# Altium footprint library Packaging.PcbLib: 26 footprints (part 1 of 2)
Each footprint in its own frame and in the unit in brackets; x right, y up, seen from the top. Pads: shape width x height; smd on the part's side, far side on the other; paste and mask are expansions set on the pad; w line width, h text height; cw(c..) or ccw(c..) is an arc to the next point about the centre after c.
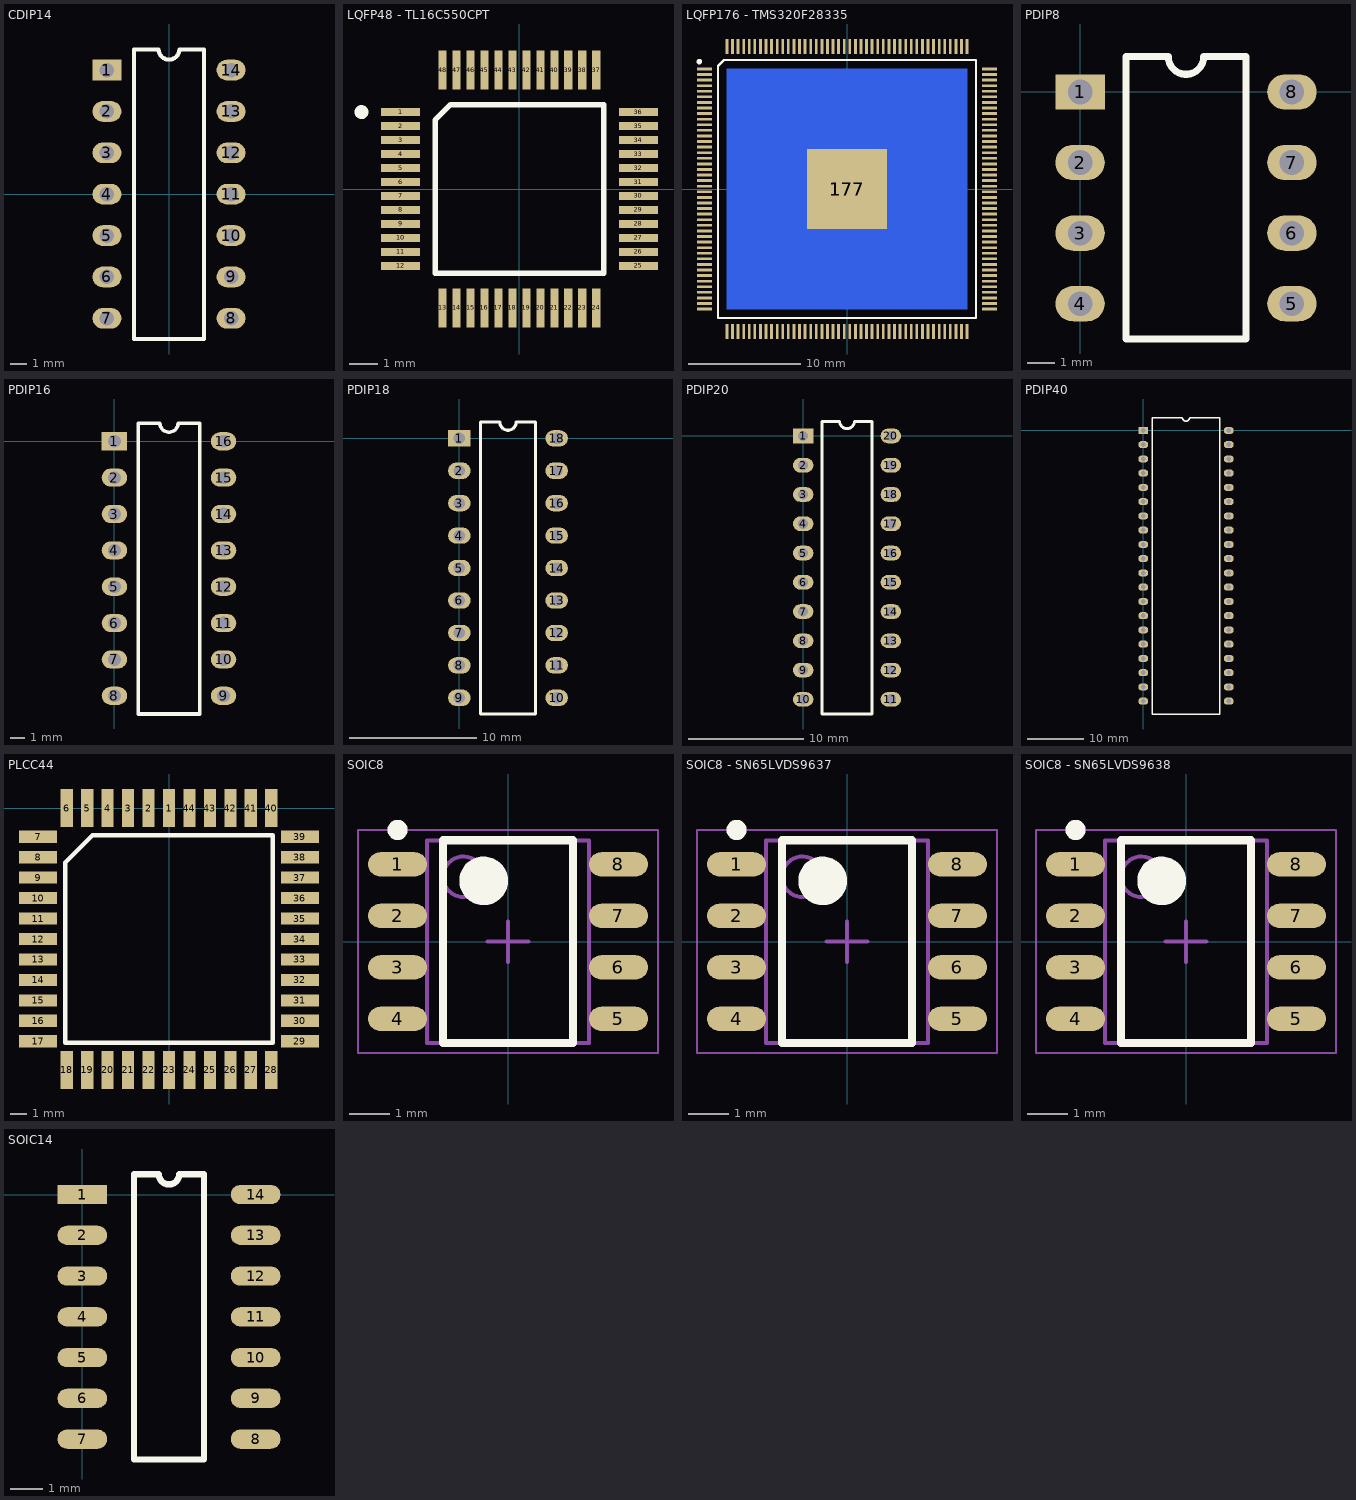
[diagram p0: the footprints below, top view; thin cyan lines are the x and y axes]

## CDIP14 [mil]
pads (14):
  rect 70x50 hole 35: 1(-150,300)
  oval 70x50 hole 35: 2(-150,200) 3(-150,100) 4(-150,0) 5(-150,-100) 6(-150,-200) 7(-150,-300) 8(150,-300) 9(150,-200) 10(150,-100) 11(150,0) 12(150,100) 13(150,200) 14(150,300)
Top Overlay:
  lines w10: -85,-350 -85,350 -25,350 ccw(c0,350) 25,350 85,350 85,-350 -85,-350
3D body: height 55, standoff 45, extent -125,-350.02 125,350.03
3D body: height 100, standoff 55, extent -125,-350.02 125,350.03
3D body: height 0, standoff -125, extent 145,292.5 155,307.5
3D body: height 50, standoff 0, extent 145,275 155,325
3D body: height 50, standoff 40, extent 125,275 145,325
3D body: height 0, standoff -125, extent 145,192.5 155,207.5
3D body: height 50, standoff 0, extent 145,175 155,225
3D body: height 50, standoff 40, extent 125,175 145,225
3D body: height 0, standoff -125, extent 145,92.5 155,107.5
3D body: height 50, standoff 0, extent 145,75 155,125
3D body: height 50, standoff 40, extent 125,75 145,125
3D body: height 0, standoff -125, extent 145,-7.5 155,7.5
3D body: height 50, standoff 0, extent 145,-25 155,25
3D body: height 50, standoff 40, extent 125,-25 145,25
3D body: height 0, standoff -125, extent 145,-107.5 155,-92.5
3D body: height 50, standoff 0, extent 145,-125 155,-75
3D body: height 50, standoff 40, extent 125,-125 145,-75
3D body: height 0, standoff -125, extent 145,-207.5 155,-192.5
3D body: height 50, standoff 0, extent 145,-225 155,-175
3D body: height 50, standoff 40, extent 125,-225 145,-175
3D body: height 0, standoff -125, extent 145,-307.5 155,-292.5
3D body: height 50, standoff 0, extent 145,-325 155,-275
3D body: height 50, standoff 40, extent 125,-325 145,-275
3D body: height 0, standoff -125, extent -155,-307.5 -145,-292.5
3D body: height 50, standoff 0, extent -155,-325 -145,-275
3D body: height 50, standoff 40, extent -145,-325 -125,-275
3D body: height 0, standoff -125, extent -155,-207.5 -145,-192.5
3D body: height 50, standoff 0, extent -155,-225 -145,-175
3D body: height 50, standoff 40, extent -145,-225 -125,-175
3D body: height 0, standoff -125, extent -155,-107.5 -145,-92.5
3D body: height 50, standoff 0, extent -155,-125 -145,-75
3D body: height 50, standoff 40, extent -145,-125 -125,-75
3D body: height 0, standoff -125, extent -155,-7.5 -145,7.5
3D body: height 50, standoff 0, extent -155,-25 -145,25
3D body: height 50, standoff 40, extent -145,-25 -125,25
3D body: height 0, standoff -125, extent -155,92.5 -145,107.5
3D body: height 50, standoff 0, extent -155,75 -145,125
3D body: height 50, standoff 40, extent -145,75 -125,125
3D body: height 0, standoff -125, extent -155,192.5 -145,207.5
3D body: height 50, standoff 0, extent -155,175 -145,225
3D body: height 50, standoff 40, extent -145,175 -125,225
3D body: height 0, standoff -125, extent -155,292.5 -145,307.5
3D body: height 50, standoff 0, extent -155,275 -145,325
3D body: height 50, standoff 40, extent -145,275 -125,325
3D body: height 45, standoff 15, extent -125,-350.02 125,350.03

## LQFP48 - TL16C550CPT [mm]
pads (48):
  rect 1.4x0.3 smd: 1(-4.25,2.75) 2(-4.25,2.25) 3(-4.25,1.75) 4(-4.25,1.25) 5(-4.25,0.75) 6(-4.25,0.25) 7(-4.25,-0.25) 8(-4.25,-0.75) 9(-4.25,-1.25) 10(-4.25,-1.75) 11(-4.25,-2.25) 12(-4.25,-2.75) 25(4.25,-2.75) 26(4.25,-2.25) 27(4.25,-1.75) 28(4.25,-1.25) 29(4.25,-0.75) 30(4.25,-0.25) 31(4.25,0.25) 32(4.25,0.75) 33(4.25,1.25) 34(4.25,1.75) 35(4.25,2.25) 36(4.25,2.75)
  rect 0.3x1.4 smd: 13(-2.75,-4.25) 14(-2.25,-4.25) 15(-1.75,-4.25) 16(-1.25,-4.25) 17(-0.75,-4.25) 18(-0.25,-4.25) 19(0.25,-4.25) 20(0.75,-4.25) 21(1.25,-4.25) 22(1.75,-4.25) 23(2.25,-4.25) 24(2.75,-4.25) 37(2.75,4.25) 38(2.25,4.25) 39(1.75,4.25) 40(1.25,4.25) 41(0.75,4.25) 42(0.25,4.25) 43(-0.25,4.25) 44(-0.75,4.25) 45(-1.25,4.25) 46(-1.75,4.25) 47(-2.25,4.25) 48(-2.75,4.25)
Top Overlay:
  circle w0.25: c-5.645,2.75 r0.125
  lines w0.2: -3.015,-3.015 -3.015,2.461 -2.461,3.015 3.015,3.015 3.015,-3.015 -3.015,-3.015
3D body: height 0.7, standoff 0, extent -2.875,3.5 -2.625,4.5
3D body: height 0.7, standoff 0, extent -2.375,3.5 -2.125,4.5
3D body: height 0.7, standoff 0, extent -1.875,3.5 -1.625,4.5
3D body: height 0.7, standoff 0, extent -1.375,3.5 -1.125,4.5
3D body: height 0.7, standoff 0, extent -0.875,3.5 -0.625,4.5
3D body: height 0.7, standoff 0, extent -0.375,3.5 -0.125,4.5
3D body: height 0.7, standoff 0, extent 0.125,3.5 0.375,4.5
3D body: height 0.7, standoff 0, extent 0.625,3.5 0.875,4.5
3D body: height 0.7, standoff 0, extent 1.125,3.5 1.375,4.5
3D body: height 0.7, standoff 0, extent 1.625,3.5 1.875,4.5
3D body: height 0.7, standoff 0, extent 2.125,3.5 2.375,4.5
3D body: height 0.7, standoff 0, extent 2.625,3.5 2.875,4.5
3D body: height 0.7, standoff 0, extent 3.5,2.625 4.5,2.875
3D body: height 0.7, standoff 0, extent 3.5,2.125 4.5,2.375
3D body: height 0.7, standoff 0, extent 3.5,1.625 4.5,1.875
3D body: height 0.7, standoff 0, extent 3.5,1.125 4.5,1.375
3D body: height 0.7, standoff 0, extent 3.5,0.625 4.5,0.875
3D body: height 0.7, standoff 0, extent 3.5,0.125 4.5,0.375
3D body: height 0.7, standoff 0, extent 3.5,-0.375 4.5,-0.125
3D body: height 0.7, standoff 0, extent 3.5,-0.875 4.5,-0.625
3D body: height 0.7, standoff 0, extent 3.5,-1.375 4.5,-1.125
3D body: height 0.7, standoff 0, extent 3.5,-1.875 4.5,-1.625
3D body: height 0.7, standoff 0, extent 3.5,-2.375 4.5,-2.125
3D body: height 0.7, standoff 0, extent 3.5,-2.875 4.5,-2.625
3D body: height 0.7, standoff 0, extent 2.625,-4.5 2.875,-3.5
3D body: height 0.7, standoff 0, extent 2.125,-4.5 2.375,-3.5
3D body: height 0.7, standoff 0, extent 1.625,-4.5 1.875,-3.5
3D body: height 0.7, standoff 0, extent 1.125,-4.5 1.375,-3.5
3D body: height 0.7, standoff 0, extent 0.625,-4.5 0.875,-3.5
3D body: height 0.7, standoff 0, extent 0.125,-4.5 0.375,-3.5
3D body: height 0.7, standoff 0, extent -0.375,-4.5 -0.125,-3.5
3D body: height 0.7, standoff 0, extent -0.875,-4.5 -0.625,-3.5
3D body: height 0.7, standoff 0, extent -1.375,-4.5 -1.125,-3.5
3D body: height 0.7, standoff 0, extent -1.875,-4.5 -1.625,-3.5
3D body: height 0.7, standoff 0, extent -2.375,-4.5 -2.125,-3.5
3D body: height 0.7, standoff 0, extent -2.875,-4.5 -2.625,-3.5
3D body: height 0.7, standoff 0, extent -4.5,-2.875 -3.5,-2.625
3D body: height 0.7, standoff 0, extent -4.5,-2.375 -3.5,-2.125
3D body: height 0.7, standoff 0, extent -4.5,-1.875 -3.5,-1.625
3D body: height 0.7, standoff 0, extent -4.5,-1.375 -3.5,-1.125
3D body: height 0.7, standoff 0, extent -4.5,-0.875 -3.5,-0.625
3D body: height 0.7, standoff 0, extent -4.5,-0.375 -3.5,-0.125
3D body: height 0.7, standoff 0, extent -4.5,0.125 -3.5,0.375
3D body: height 0.7, standoff 0, extent -4.5,0.625 -3.5,0.875
3D body: height 0.7, standoff 0, extent -4.5,1.125 -3.5,1.375
3D body: height 0.7, standoff 0, extent -4.5,1.625 -3.5,1.875
3D body: height 0.7, standoff 0, extent -4.5,2.125 -3.5,2.375
3D body: height 0.7, standoff 0, extent -4.5,2.625 -3.5,2.875
3D body: height 1.4, standoff 0, extent -3.5,-3.5 3.5,3.5

## LQFP176 - TMS320F28335 [mm] "LQFP176 with PowerPAD."
pads (178):
  rect 1.35x0.25 smd: 1(-12.75,10.75) 2(-12.75,10.25) 3(-12.75,9.75) 4(-12.75,9.25) 5(-12.75,8.75) 6(-12.75,8.25) 7(-12.75,7.75) 8(-12.75,7.25) 9(-12.75,6.75) 10(-12.75,6.25) 11(-12.75,5.75) 12(-12.75,5.25) 13(-12.75,4.75) 14(-12.75,4.25) 15(-12.75,3.75) 16(-12.75,3.25) 17(-12.75,2.75) 18(-12.75,2.25) 19(-12.75,1.75) 20(-12.75,1.25) 21(-12.75,0.75) 22(-12.75,0.25) 23(-12.75,-0.25) 24(-12.75,-0.75) 25(-12.75,-1.25) 26(-12.75,-1.75) 27(-12.75,-2.25) 28(-12.75,-2.75) 29(-12.75,-3.25) 30(-12.75,-3.75) 31(-12.75,-4.25) 32(-12.75,-4.75) 33(-12.75,-5.25) 34(-12.75,-5.75) 35(-12.75,-6.25) 36(-12.75,-6.75) 37(-12.75,-7.25) 38(-12.75,-7.75) 39(-12.75,-8.25) 40(-12.75,-8.75) 41(-12.75,-9.25) 42(-12.75,-9.75) 43(-12.75,-10.25) 44(-12.75,-10.75) 89(12.75,-10.75) 90(12.75,-10.25) 91(12.75,-9.75) 92(12.75,-9.25) 93(12.75,-8.75) 94(12.75,-8.25) 95(12.75,-7.75) 96(12.75,-7.25) 97(12.75,-6.75) 98(12.75,-6.25) 99(12.75,-5.75) 100(12.75,-5.25) 101(12.75,-4.75) 102(12.75,-4.25) 103(12.75,-3.75) 104(12.75,-3.25) 105(12.75,-2.75) 106(12.75,-2.25) 107(12.75,-1.75) 108(12.75,-1.25) 109(12.75,-0.75) 110(12.75,-0.25) 111(12.75,0.25) 112(12.75,0.75) 113(12.75,1.25) 114(12.75,1.75) 115(12.75,2.25) 116(12.75,2.75) 117(12.75,3.25) 118(12.75,3.75) 119(12.75,4.25) 120(12.75,4.75) 121(12.75,5.25) 122(12.75,5.75) 123(12.75,6.25) 124(12.75,6.75) 125(12.75,7.25) 126(12.75,7.75) 127(12.75,8.25) 128(12.75,8.75) 129(12.75,9.25) 130(12.75,9.75) 131(12.75,10.25) 132(12.75,10.75)
  rect 0.25x1.35 smd: 45(-10.75,-12.75) 46(-10.25,-12.75) 47(-9.75,-12.75) 48(-9.25,-12.75) 49(-8.75,-12.75) 50(-8.25,-12.75) 51(-7.75,-12.75) 52(-7.25,-12.75) 53(-6.75,-12.75) 54(-6.25,-12.75) 55(-5.75,-12.75) 56(-5.25,-12.75) 57(-4.75,-12.75) 58(-4.25,-12.75) 59(-3.75,-12.75) 60(-3.25,-12.75) 61(-2.75,-12.75) 62(-2.25,-12.75) 63(-1.75,-12.75) 64(-1.25,-12.75) 65(-0.75,-12.75) 66(-0.25,-12.75) 67(0.25,-12.75) 68(0.75,-12.75) 69(1.25,-12.75) 70(1.75,-12.75) 71(2.25,-12.75) 72(2.75,-12.75) 73(3.25,-12.75) 74(3.75,-12.75) 75(4.25,-12.75) 76(4.75,-12.75) 77(5.25,-12.75) 78(5.75,-12.75) 79(6.25,-12.75) 80(6.75,-12.75) 81(7.25,-12.75) 82(7.75,-12.75) 83(8.25,-12.75) 84(8.75,-12.75) 85(9.25,-12.75) 86(9.75,-12.75) 87(10.25,-12.75) 88(10.75,-12.75) 133(10.75,12.75) 134(10.25,12.75) 135(9.75,12.75) 136(9.25,12.75) 137(8.75,12.75) 138(8.25,12.75) 139(7.75,12.75) 140(7.25,12.75) 141(6.75,12.75) 142(6.25,12.75) 143(5.75,12.75) 144(5.25,12.75) 145(4.75,12.75) 146(4.25,12.75) 147(3.75,12.75) 148(3.25,12.75) 149(2.75,12.75) 150(2.25,12.75) 151(1.75,12.75) 152(1.25,12.75) 153(0.75,12.75) 154(0.25,12.75) 155(-0.25,12.75) 156(-0.75,12.75) 157(-1.25,12.75) 158(-1.75,12.75) 159(-2.25,12.75) 160(-2.75,12.75) 161(-3.25,12.75) 162(-3.75,12.75) 163(-4.25,12.75) 164(-4.75,12.75) 165(-5.25,12.75) 166(-5.75,12.75) 167(-6.25,12.75) 168(-6.75,12.75) 169(-7.25,12.75) 170(-7.75,12.75) 171(-8.25,12.75) 172(-8.75,12.75) 173(-9.25,12.75) 174(-9.75,12.75) 175(-10.25,12.75) 176(-10.75,12.75)
  rect 7.18x7.16 smd: 177(0,0)
  rect 21.5x21.5 smd far side: 177(0,0)
Top Overlay:
  circle w0.25: c-13.212,11.4 r0.125
  lines w0.2: -11.54,-11.54 -11.54,11 -11,11.54 11.54,11.54 11.54,-11.54 -11.54,-11.54
3D body: height 0.25, standoff 0, extent -9.9,-13 -9.6,-11.5
3D body: height 0.25, standoff 0, extent -10.4,-13 -10.1,-11.5
3D body: height 0.25, standoff 0, extent -10.9,-13 -10.6,-11.5
3D body: height 0.25, standoff 0, extent -13,-10.9 -11.5,-10.6
3D body: height 0.25, standoff 0, extent -13,-10.4 -11.5,-10.1
3D body: height 0.25, standoff 0, extent -13,-9.9 -11.5,-9.6
3D body: height 0.25, standoff 0, extent -13,-9.4 -11.5,-9.1
3D body: height 0.25, standoff 0, extent -13,-8.9 -11.5,-8.6
3D body: height 0.25, standoff 0, extent -13,-8.4 -11.5,-8.1
3D body: height 0.25, standoff 0, extent -13,-7.9 -11.5,-7.6
3D body: height 0.25, standoff 0, extent -13,-7.4 -11.5,-7.1
3D body: height 0.25, standoff 0, extent -13,-6.9 -11.5,-6.6
3D body: height 0.25, standoff 0, extent -13,-6.4 -11.5,-6.1
3D body: height 0.25, standoff 0, extent -13,-5.9 -11.5,-5.6
3D body: height 0.25, standoff 0, extent -13,-5.4 -11.5,-5.1
3D body: height 0.25, standoff 0, extent -13,-4.9 -11.5,-4.6
3D body: height 0.25, standoff 0, extent -13,-4.4 -11.5,-4.1
3D body: height 0.25, standoff 0, extent -13,-3.9 -11.5,-3.6
3D body: height 0.25, standoff 0, extent -13,-3.4 -11.5,-3.1
3D body: height 0.25, standoff 0, extent -13,-2.9 -11.5,-2.6
3D body: height 0.25, standoff 0, extent -13,-2.4 -11.5,-2.1
3D body: height 0.25, standoff 0, extent -13,-1.9 -11.5,-1.6
3D body: height 0.25, standoff 0, extent -13,-1.4 -11.5,-1.1
3D body: height 0.25, standoff 0, extent -13,-0.9 -11.5,-0.6
3D body: height 0.25, standoff 0, extent -13,-0.4 -11.5,-0.1
3D body: height 0.25, standoff 0, extent -13,0.1 -11.5,0.4
3D body: height 0.25, standoff 0, extent -13,0.6 -11.5,0.9
3D body: height 0.25, standoff 0, extent -13,1.1 -11.5,1.4
3D body: height 0.25, standoff 0, extent -13,1.6 -11.5,1.9
3D body: height 0.25, standoff 0, extent -13,2.1 -11.5,2.4
3D body: height 0.25, standoff 0, extent -13,2.6 -11.5,2.9
3D body: height 0.25, standoff 0, extent -13,3.1 -11.5,3.4
3D body: height 0.25, standoff 0, extent -13,3.6 -11.5,3.9
3D body: height 0.25, standoff 0, extent -13,4.1 -11.5,4.4
3D body: height 0.25, standoff 0, extent -13,4.6 -11.5,4.9
3D body: height 0.25, standoff 0, extent -13,5.1 -11.5,5.4
3D body: height 0.25, standoff 0, extent -13,5.6 -11.5,5.9
3D body: height 0.25, standoff 0, extent -13,6.1 -11.5,6.4
3D body: height 0.25, standoff 0, extent -13,6.6 -11.5,6.9
3D body: height 0.25, standoff 0, extent -13,7.1 -11.5,7.4
3D body: height 0.25, standoff 0, extent -13,7.6 -11.5,7.9
3D body: height 0.25, standoff 0, extent -13,8.1 -11.5,8.4
3D body: height 0.25, standoff 0, extent -13,8.6 -11.5,8.9
3D body: height 0.25, standoff 0, extent -13,9.1 -11.5,9.4
3D body: height 0.25, standoff 0, extent -13,9.6 -11.5,9.9
3D body: height 0.25, standoff 0, extent -13,10.6 -11.5,10.9
3D body: height 0.25, standoff 0, extent -13,10.1 -11.5,10.4
3D body: height 1.6, standoff 0, extent -11.541,-11.54 11.54,11.541
3D body: height 0.25, standoff 0, extent -9.4,-13 -9.1,-11.5
3D body: height 0.25, standoff 0, extent -8.9,-13 -8.6,-11.5
3D body: height 0.25, standoff 0, extent -8.4,-13 -8.1,-11.5
3D body: height 0.25, standoff 0, extent -7.9,-13 -7.6,-11.5
3D body: height 0.25, standoff 0, extent -7.4,-13 -7.1,-11.5
3D body: height 0.25, standoff 0, extent -6.9,-13 -6.6,-11.5
3D body: height 0.25, standoff 0, extent -6.4,-13 -6.1,-11.5
3D body: height 0.25, standoff 0, extent -5.9,-13 -5.6,-11.5
3D body: height 0.25, standoff 0, extent -5.4,-13 -5.1,-11.5
3D body: height 0.25, standoff 0, extent -4.9,-13 -4.6,-11.5
3D body: height 0.25, standoff 0, extent -4.4,-13 -4.1,-11.5
3D body: height 0.25, standoff 0, extent -3.9,-13 -3.6,-11.5
3D body: height 0.25, standoff 0, extent -3.4,-13 -3.1,-11.5
3D body: height 0.25, standoff 0, extent -2.9,-13 -2.6,-11.5
3D body: height 0.25, standoff 0, extent -2.4,-13 -2.1,-11.5
3D body: height 0.25, standoff 0, extent -1.9,-13 -1.6,-11.5
3D body: height 0.25, standoff 0, extent -1.4,-13 -1.1,-11.5
3D body: height 0.25, standoff 0, extent -0.9,-13 -0.6,-11.5
3D body: height 0.25, standoff 0, extent -0.4,-13 -0.1,-11.5
3D body: height 0.25, standoff 0, extent 0.1,-13 0.4,-11.5
3D body: height 0.25, standoff 0, extent 0.6,-13 0.9,-11.5
3D body: height 0.25, standoff 0, extent 1.1,-13 1.4,-11.5
3D body: height 0.25, standoff 0, extent 1.6,-13 1.9,-11.5
3D body: height 0.25, standoff 0, extent 2.1,-13 2.4,-11.5
3D body: height 0.25, standoff 0, extent 2.6,-13 2.9,-11.5
3D body: height 0.25, standoff 0, extent 3.1,-13 3.4,-11.5
3D body: height 0.25, standoff 0, extent 3.6,-13 3.9,-11.5
3D body: height 0.25, standoff 0, extent 4.1,-13 4.4,-11.5
3D body: height 0.25, standoff 0, extent 4.6,-13 4.9,-11.5
3D body: height 0.25, standoff 0, extent 5.1,-13 5.4,-11.5
3D body: height 0.25, standoff 0, extent 5.6,-13 5.9,-11.5
3D body: height 0.25, standoff 0, extent 6.1,-13 6.4,-11.5
3D body: height 0.25, standoff 0, extent 6.6,-13 6.9,-11.5
3D body: height 0.25, standoff 0, extent 7.1,-13 7.4,-11.5
3D body: height 0.25, standoff 0, extent 7.6,-13 7.9,-11.5
3D body: height 0.25, standoff 0, extent 8.1,-13 8.4,-11.5
3D body: height 0.25, standoff 0, extent 8.6,-13 8.9,-11.5
3D body: height 0.25, standoff 0, extent 9.1,-13 9.4,-11.5
3D body: height 0.25, standoff 0, extent 9.6,-13 9.9,-11.5
3D body: height 0.25, standoff 0, extent 10.1,-13 10.4,-11.5
3D body: height 0.25, standoff 0, extent 10.6,-13 10.9,-11.5
3D body: height 0.25, standoff 0, extent 11.5,-10.9 13,-10.6
3D body: height 0.25, standoff 0, extent 11.5,-10.4 13,-10.1
3D body: height 0.25, standoff 0, extent 11.5,-9.9 13,-9.6
3D body: height 0.25, standoff 0, extent 11.5,-9.4 13,-9.1
3D body: height 0.25, standoff 0, extent 11.5,-8.9 13,-8.6
3D body: height 0.25, standoff 0, extent 11.5,-8.4 13,-8.1
3D body: height 0.25, standoff 0, extent 11.5,-7.9 13,-7.6
3D body: height 0.25, standoff 0, extent 11.5,-7.4 13,-7.1
3D body: height 0.25, standoff 0, extent 11.5,-6.9 13,-6.6
3D body: height 0.25, standoff 0, extent 11.5,-6.4 13,-6.1
3D body: height 0.25, standoff 0, extent 11.5,-5.9 13,-5.6
3D body: height 0.25, standoff 0, extent 11.5,-5.4 13,-5.1
3D body: height 0.25, standoff 0, extent 11.5,-4.9 13,-4.6
3D body: height 0.25, standoff 0, extent 11.5,-4.4 13,-4.1
3D body: height 0.25, standoff 0, extent 11.5,-3.9 13,-3.6
3D body: height 0.25, standoff 0, extent 11.5,-3.4 13,-3.1
3D body: height 0.25, standoff 0, extent 11.5,-2.9 13,-2.6
3D body: height 0.25, standoff 0, extent 11.5,-2.4 13,-2.1
3D body: height 0.25, standoff 0, extent 11.5,-1.9 13,-1.6
3D body: height 0.25, standoff 0, extent 11.5,-1.4 13,-1.1
3D body: height 0.25, standoff 0, extent 11.5,-0.9 13,-0.6
3D body: height 0.25, standoff 0, extent 11.5,-0.4 13,-0.1
3D body: height 0.25, standoff 0, extent 11.5,0.1 13,0.4
3D body: height 0.25, standoff 0, extent 11.5,0.6 13,0.9
3D body: height 0.25, standoff 0, extent 11.5,1.1 13,1.4
3D body: height 0.25, standoff 0, extent 11.5,1.6 13,1.9
3D body: height 0.25, standoff 0, extent 11.5,2.1 13,2.4
3D body: height 0.25, standoff 0, extent 11.5,2.6 13,2.9
3D body: height 0.25, standoff 0, extent 11.5,3.1 13,3.4
3D body: height 0.25, standoff 0, extent 11.5,3.6 13,3.9
3D body: height 0.25, standoff 0, extent 11.5,4.1 13,4.4
3D body: height 0.25, standoff 0, extent 11.5,4.6 13,4.9
3D body: height 0.25, standoff 0, extent 11.5,5.1 13,5.4
3D body: height 0.25, standoff 0, extent 11.5,5.6 13,5.9
3D body: height 0.25, standoff 0, extent 11.5,6.1 13,6.4
3D body: height 0.25, standoff 0, extent 11.5,6.6 13,6.9
3D body: height 0.25, standoff 0, extent 11.5,7.1 13,7.4
3D body: height 0.25, standoff 0, extent 11.5,7.6 13,7.9
3D body: height 0.25, standoff 0, extent 11.5,8.1 13,8.4
3D body: height 0.25, standoff 0, extent 11.5,8.6 13,8.9
3D body: height 0.25, standoff 0, extent 11.5,9.1 13,9.4
3D body: height 0.25, standoff 0, extent 11.5,9.6 13,9.9
3D body: height 0.25, standoff 0, extent 11.5,10.1 13,10.4
3D body: height 0.25, standoff 0, extent 11.5,10.6 13,10.9
3D body: height 0.25, standoff 0, extent 10.6,11.5 10.9,13
3D body: height 0.25, standoff 0, extent 10.1,11.5 10.4,13
3D body: height 0.25, standoff 0, extent 9.6,11.5 9.9,13
3D body: height 0.25, standoff 0, extent 9.1,11.5 9.4,13
3D body: height 0.25, standoff 0, extent 8.6,11.5 8.9,13
3D body: height 0.25, standoff 0, extent 8.1,11.5 8.4,13
3D body: height 0.25, standoff 0, extent 7.6,11.5 7.9,13
3D body: height 0.25, standoff 0, extent 7.1,11.5 7.4,13
3D body: height 0.25, standoff 0, extent 6.6,11.5 6.9,13
3D body: height 0.25, standoff 0, extent 6.1,11.5 6.4,13
3D body: height 0.25, standoff 0, extent 5.6,11.5 5.9,13
3D body: height 0.25, standoff 0, extent 5.1,11.5 5.4,13
3D body: height 0.25, standoff 0, extent 4.6,11.5 4.9,13
3D body: height 0.25, standoff 0, extent 4.1,11.5 4.4,13
3D body: height 0.25, standoff 0, extent 3.6,11.5 3.9,13
3D body: height 0.25, standoff 0, extent 3.1,11.5 3.4,13
3D body: height 0.25, standoff 0, extent 2.6,11.5 2.9,13
3D body: height 0.25, standoff 0, extent 2.1,11.5 2.4,13
3D body: height 0.25, standoff 0, extent 1.6,11.5 1.9,13
3D body: height 0.25, standoff 0, extent 1.1,11.5 1.4,13
3D body: height 0.25, standoff 0, extent 0.6,11.5 0.9,13
3D body: height 0.25, standoff 0, extent 0.1,11.5 0.4,13
3D body: height 0.25, standoff 0, extent -0.4,11.5 -0.1,13
3D body: height 0.25, standoff 0, extent -0.9,11.5 -0.6,13
3D body: height 0.25, standoff 0, extent -1.4,11.5 -1.1,13
3D body: height 0.25, standoff 0, extent -1.9,11.5 -1.6,13
3D body: height 0.25, standoff 0, extent -2.4,11.5 -2.1,13
3D body: height 0.25, standoff 0, extent -2.9,11.5 -2.6,13
3D body: height 0.25, standoff 0, extent -3.4,11.5 -3.1,13
3D body: height 0.25, standoff 0, extent -3.9,11.5 -3.6,13
3D body: height 0.25, standoff 0, extent -4.4,11.5 -4.1,13
3D body: height 0.25, standoff 0, extent -4.9,11.5 -4.6,13
3D body: height 0.25, standoff 0, extent -5.4,11.5 -5.1,13
3D body: height 0.25, standoff 0, extent -5.9,11.5 -5.6,13
3D body: height 0.25, standoff 0, extent -6.4,11.5 -6.1,13
3D body: height 0.25, standoff 0, extent -6.9,11.5 -6.6,13
3D body: height 0.25, standoff 0, extent -7.4,11.5 -7.1,13
3D body: height 0.25, standoff 0, extent -7.9,11.5 -7.6,13
3D body: height 0.25, standoff 0, extent -8.4,11.5 -8.1,13
3D body: height 0.25, standoff 0, extent -8.9,11.5 -8.6,13
3D body: height 0.25, standoff 0, extent -9.4,11.5 -9.1,13
3D body: height 0.25, standoff 0, extent -9.9,11.5 -9.6,13
3D body: height 0.25, standoff 0, extent -10.4,11.5 -10.1,13
3D body: height 0.25, standoff 0, extent -10.9,11.5 -10.6,13

## PDIP8 [mil]
pads (8):
  rect 70x50 hole 35: 1(0,0)
  oval 70x50 hole 35: 2(0,-100) 3(0,-200) 4(0,-300) 5(300,-300) 6(300,-200) 7(300,-100) 8(300,0)
Top Overlay:
  lines w10: 65,-350 235,-350 235,50 175,50 cw(c150,50) 125,50 65,50 65,-350
3D body: height 100, standoff 15, extent 25,-350 275,50.03
3D body: height 50, standoff 40, extent 5,-25 25,25
3D body: height 50, standoff 0, extent -5,-25 5,25
3D body: height 0, standoff -125, extent -5,-7.5 5,7.5
3D body: height 50, standoff 40, extent 5,-125 25,-75
3D body: height 50, standoff 0, extent -5,-125 5,-75
3D body: height 0, standoff -125, extent -5,-107.5 5,-92.5
3D body: height 50, standoff 40, extent 5,-225 25,-175
3D body: height 50, standoff 0, extent -5,-225 5,-175
3D body: height 0, standoff -125, extent -5,-207.5 5,-192.5
3D body: height 50, standoff 40, extent 5,-325 25,-275
3D body: height 50, standoff 0, extent -5,-325 5,-275
3D body: height 0, standoff -125, extent -5,-307.5 5,-292.5
3D body: height 50, standoff 40, extent 275,-325 295,-275
3D body: height 50, standoff 0, extent 295,-325 305,-275
3D body: height 0, standoff -125, extent 295,-307.5 305,-292.5
3D body: height 50, standoff 40, extent 275,-225 295,-175
3D body: height 50, standoff 0, extent 295,-225 305,-175
3D body: height 0, standoff -125, extent 295,-207.5 305,-192.5
3D body: height 50, standoff 40, extent 275,-125 295,-75
3D body: height 50, standoff 0, extent 295,-125 305,-75
3D body: height 0, standoff -125, extent 295,-107.5 305,-92.5
3D body: height 50, standoff 40, extent 275,-25 295,25
3D body: height 50, standoff 0, extent 295,-25 305,25
3D body: height 0, standoff -125, extent 295,-7.5 305,7.5

## PDIP16 [mil]
pads (16):
  rect 70x50 hole 35: 1(0,0)
  oval 70x50 hole 35: 2(0,-100) 3(0,-200) 4(0,-300) 5(0,-400) 6(0,-500) 7(0,-600) 8(0,-700) 9(300,-700) 10(300,-600) 11(300,-500) 12(300,-400) 13(300,-300) 14(300,-200) 15(300,-100) 16(300,0)
Top Overlay:
  lines w10: 65,-750 235,-750 235,50 175,50 cw(c150,50) 125,50 65,50 65,-750
3D body: height 0, standoff -125, extent 295,-7.5 305,7.5
3D body: height 50, standoff 0, extent 295,-25 305,25
3D body: height 50, standoff 40, extent 275,-25 295,25
3D body: height 0, standoff -125, extent 295,-107.5 305,-92.5
3D body: height 50, standoff 0, extent 295,-125 305,-75
3D body: height 50, standoff 40, extent 275,-125 295,-75
3D body: height 0, standoff -125, extent 295,-207.5 305,-192.5
3D body: height 50, standoff 0, extent 295,-225 305,-175
3D body: height 50, standoff 40, extent 275,-225 295,-175
3D body: height 0, standoff -125, extent 295,-307.5 305,-292.5
3D body: height 50, standoff 0, extent 295,-325 305,-275
3D body: height 50, standoff 40, extent 275,-325 295,-275
3D body: height 0, standoff -125, extent 295,-407.5 305,-392.5
3D body: height 50, standoff 0, extent 295,-425 305,-375
3D body: height 50, standoff 40, extent 275,-425 295,-375
3D body: height 0, standoff -125, extent 295,-507.5 305,-492.5
3D body: height 50, standoff 0, extent 295,-525 305,-475
3D body: height 50, standoff 40, extent 275,-525 295,-475
3D body: height 0, standoff -125, extent 295,-607.5 305,-592.5
3D body: height 50, standoff 0, extent 295,-625 305,-575
3D body: height 50, standoff 40, extent 275,-625 295,-575
3D body: height 0, standoff -125, extent 295,-707.5 305,-692.5
3D body: height 50, standoff 0, extent 295,-725 305,-675
3D body: height 50, standoff 40, extent 275,-725 295,-675
3D body: height 0, standoff -125, extent -5,-707.5 5,-692.5
3D body: height 50, standoff 0, extent -5,-725 5,-675
3D body: height 50, standoff 40, extent 5,-725 25,-675
3D body: height 0, standoff -125, extent -5,-607.5 5,-592.5
3D body: height 50, standoff 0, extent -5,-625 5,-575
3D body: height 50, standoff 40, extent 5,-625 25,-575
3D body: height 0, standoff -125, extent -5,-507.5 5,-492.5
3D body: height 50, standoff 0, extent -5,-525 5,-475
3D body: height 50, standoff 40, extent 5,-525 25,-475
3D body: height 0, standoff -125, extent -5,-407.5 5,-392.5
3D body: height 50, standoff 0, extent -5,-425 5,-375
3D body: height 50, standoff 40, extent 5,-425 25,-375
3D body: height 0, standoff -125, extent -5,-307.5 5,-292.5
3D body: height 50, standoff 0, extent -5,-325 5,-275
3D body: height 50, standoff 40, extent 5,-325 25,-275
3D body: height 0, standoff -125, extent -5,-207.5 5,-192.5
3D body: height 50, standoff 0, extent -5,-225 5,-175
3D body: height 50, standoff 40, extent 5,-225 25,-175
3D body: height 0, standoff -125, extent -5,-107.5 5,-92.5
3D body: height 50, standoff 0, extent -5,-125 5,-75
3D body: height 50, standoff 40, extent 5,-125 25,-75
3D body: height 0, standoff -125, extent -5,-7.5 5,7.5
3D body: height 50, standoff 0, extent -5,-25 5,25
3D body: height 50, standoff 40, extent 5,-25 25,25
3D body: height 100, standoff 15, extent 25,-750 275,50.04

## PDIP18 [mil]
pads (18):
  rect 70x50 hole 35: 1(0,0)
  oval 70x50 hole 35: 2(0,-100) 3(0,-200) 4(0,-300) 5(0,-400) 6(0,-500) 7(0,-600) 8(0,-700) 9(0,-800) 10(300,-800) 11(300,-700) 12(300,-600) 13(300,-500) 14(300,-400) 15(300,-300) 16(300,-200) 17(300,-100) 18(300,0)
Top Overlay:
  lines w10: 65,-850 235,-850 235,50 175,50 cw(c150,50) 125,50 65,50 65,-850
3D body: height 50, standoff 40, extent 275,-825 295,-775
3D body: height 50, standoff 0, extent 295,-825 305,-775
3D body: height 0, standoff -125, extent 295,-807.5 305,-792.5
3D body: height 50, standoff 40, extent 5,-825 25,-775
3D body: height 50, standoff 0, extent -5,-825 5,-775
3D body: height 0, standoff -125, extent -5,-807.5 5,-792.5
3D body: height 0, standoff -125, extent 295,-7.5 305,7.5
3D body: height 50, standoff 0, extent 295,-25 305,25
3D body: height 50, standoff 40, extent 275,-25 295,25
3D body: height 0, standoff -125, extent 295,-107.5 305,-92.5
3D body: height 50, standoff 0, extent 295,-125 305,-75
3D body: height 50, standoff 40, extent 275,-125 295,-75
3D body: height 0, standoff -125, extent 295,-207.5 305,-192.5
3D body: height 50, standoff 0, extent 295,-225 305,-175
3D body: height 50, standoff 40, extent 275,-225 295,-175
3D body: height 0, standoff -125, extent 295,-307.5 305,-292.5
3D body: height 50, standoff 0, extent 295,-325 305,-275
3D body: height 50, standoff 40, extent 275,-325 295,-275
3D body: height 0, standoff -125, extent 295,-407.5 305,-392.5
3D body: height 50, standoff 0, extent 295,-425 305,-375
3D body: height 50, standoff 40, extent 275,-425 295,-375
3D body: height 0, standoff -125, extent 295,-507.5 305,-492.5
3D body: height 50, standoff 0, extent 295,-525 305,-475
3D body: height 50, standoff 40, extent 275,-525 295,-475
3D body: height 0, standoff -125, extent 295,-607.5 305,-592.5
3D body: height 50, standoff 0, extent 295,-625 305,-575
3D body: height 50, standoff 40, extent 275,-625 295,-575
3D body: height 0, standoff -125, extent 295,-707.5 305,-692.5
3D body: height 50, standoff 0, extent 295,-725 305,-675
3D body: height 50, standoff 40, extent 275,-725 295,-675
3D body: height 0, standoff -125, extent -5,-707.5 5,-692.5
3D body: height 50, standoff 0, extent -5,-725 5,-675
3D body: height 50, standoff 40, extent 5,-725 25,-675
3D body: height 0, standoff -125, extent -5,-607.5 5,-592.5
3D body: height 50, standoff 0, extent -5,-625 5,-575
3D body: height 50, standoff 40, extent 5,-625 25,-575
3D body: height 0, standoff -125, extent -5,-507.5 5,-492.5
3D body: height 50, standoff 0, extent -5,-525 5,-475
3D body: height 50, standoff 40, extent 5,-525 25,-475
3D body: height 0, standoff -125, extent -5,-407.5 5,-392.5
3D body: height 50, standoff 0, extent -5,-425 5,-375
3D body: height 50, standoff 40, extent 5,-425 25,-375
3D body: height 0, standoff -125, extent -5,-307.5 5,-292.5
3D body: height 50, standoff 0, extent -5,-325 5,-275
3D body: height 50, standoff 40, extent 5,-325 25,-275
3D body: height 0, standoff -125, extent -5,-207.5 5,-192.5
3D body: height 50, standoff 0, extent -5,-225 5,-175
3D body: height 50, standoff 40, extent 5,-225 25,-175
3D body: height 0, standoff -125, extent -5,-107.5 5,-92.5
3D body: height 50, standoff 0, extent -5,-125 5,-75
3D body: height 50, standoff 40, extent 5,-125 25,-75
3D body: height 0, standoff -125, extent -5,-7.5 5,7.5
3D body: height 50, standoff 0, extent -5,-25 5,25
3D body: height 50, standoff 40, extent 5,-25 25,25
3D body: height 100, standoff 15, extent 25,-850 275,50.04

## PDIP20 [mil]
pads (20):
  rect 70x50 hole 35: 1(0,0)
  oval 70x50 hole 35: 2(0,-100) 3(0,-200) 4(0,-300) 5(0,-400) 6(0,-500) 7(0,-600) 8(0,-700) 9(0,-800) 10(0,-900) 11(300,-900) 12(300,-800) 13(300,-700) 14(300,-600) 15(300,-500) 16(300,-400) 17(300,-300) 18(300,-200) 19(300,-100) 20(300,0)
Top Overlay:
  lines w10: 65,-950 235,-950 235,50 175,50 cw(c150,50) 125,50 65,50 65,-950
3D body: height 0, standoff -125, extent 295,-7.5 305,7.5
3D body: height 50, standoff 0, extent 295,-25 305,25
3D body: height 50, standoff 40, extent 275,-25 295,25
3D body: height 0, standoff -125, extent 295,-107.5 305,-92.5
3D body: height 50, standoff 0, extent 295,-125 305,-75
3D body: height 50, standoff 40, extent 275,-125 295,-75
3D body: height 0, standoff -125, extent 295,-207.5 305,-192.5
3D body: height 50, standoff 0, extent 295,-225 305,-175
3D body: height 50, standoff 40, extent 275,-225 295,-175
3D body: height 0, standoff -125, extent 295,-307.5 305,-292.5
3D body: height 50, standoff 0, extent 295,-325 305,-275
3D body: height 50, standoff 40, extent 275,-325 295,-275
3D body: height 0, standoff -125, extent 295,-407.5 305,-392.5
3D body: height 50, standoff 0, extent 295,-425 305,-375
3D body: height 50, standoff 40, extent 275,-425 295,-375
3D body: height 0, standoff -125, extent 295,-507.5 305,-492.5
3D body: height 50, standoff 0, extent 295,-525 305,-475
3D body: height 50, standoff 40, extent 275,-525 295,-475
3D body: height 0, standoff -125, extent 295,-607.5 305,-592.5
3D body: height 50, standoff 0, extent 295,-625 305,-575
3D body: height 50, standoff 40, extent 275,-625 295,-575
3D body: height 0, standoff -125, extent 295,-707.5 305,-692.5
3D body: height 50, standoff 0, extent 295,-725 305,-675
3D body: height 50, standoff 40, extent 275,-725 295,-675
3D body: height 0, standoff -125, extent 295,-807.5 305,-792.5
3D body: height 50, standoff 0, extent 295,-825 305,-775
3D body: height 50, standoff 40, extent 275,-825 295,-775
3D body: height 0, standoff -125, extent 295,-907.5 305,-892.5
3D body: height 50, standoff 0, extent 295,-925 305,-875
3D body: height 50, standoff 40, extent 275,-925 295,-875
3D body: height 0, standoff -125, extent -5,-907.5 5,-892.5
3D body: height 50, standoff 0, extent -5,-925 5,-875
3D body: height 50, standoff 40, extent 5,-925 25,-875
3D body: height 0, standoff -125, extent -5,-807.5 5,-792.5
3D body: height 50, standoff 0, extent -5,-825 5,-775
3D body: height 50, standoff 40, extent 5,-825 25,-775
3D body: height 0, standoff -125, extent -5,-707.5 5,-692.5
3D body: height 50, standoff 0, extent -5,-725 5,-675
3D body: height 50, standoff 40, extent 5,-725 25,-675
3D body: height 0, standoff -125, extent -5,-607.5 5,-592.5
3D body: height 50, standoff 0, extent -5,-625 5,-575
3D body: height 50, standoff 40, extent 5,-625 25,-575
3D body: height 0, standoff -125, extent -5,-507.5 5,-492.5
3D body: height 50, standoff 0, extent -5,-525 5,-475
3D body: height 50, standoff 40, extent 5,-525 25,-475
3D body: height 0, standoff -125, extent -5,-407.5 5,-392.5
3D body: height 50, standoff 0, extent -5,-425 5,-375
3D body: height 50, standoff 40, extent 5,-425 25,-375
3D body: height 0, standoff -125, extent -5,-307.5 5,-292.5
3D body: height 50, standoff 0, extent -5,-325 5,-275
3D body: height 50, standoff 40, extent 5,-325 25,-275
3D body: height 0, standoff -125, extent -5,-207.5 5,-192.5
3D body: height 50, standoff 0, extent -5,-225 5,-175
3D body: height 50, standoff 40, extent 5,-225 25,-175
3D body: height 0, standoff -125, extent -5,-107.5 5,-92.5
3D body: height 50, standoff 0, extent -5,-125 5,-75
3D body: height 50, standoff 40, extent 5,-125 25,-75
3D body: height 0, standoff -125, extent -5,-7.5 5,7.5
3D body: height 50, standoff 0, extent -5,-25 5,25
3D body: height 50, standoff 40, extent 5,-25 25,25
3D body: height 100, standoff 15, extent 25,-950.02 275,50.04

## PDIP40 [mil]
pads (40):
  rect 70x50 hole 35: 1(0,0)
  oval 70x50 hole 35: 2(0,-100) 3(0,-200) 4(0,-300) 5(0,-400) 6(0,-500) 7(0,-600) 8(0,-700) 9(0,-800) 10(0,-900) 11(0,-1000) 12(0,-1100) 13(0,-1200) 14(0,-1300) 15(0,-1400) 16(0,-1500) 17(0,-1600) 18(0,-1700) 19(0,-1800) 20(0,-1900) 21(600,-1900) 22(600,-1800) 23(600,-1700) 24(600,-1600) 25(600,-1500) 26(600,-1400) 27(600,-1300) 28(600,-1200) 29(600,-1100) 30(600,-1000) 31(600,-900) 32(600,-800) 33(600,-700) 34(600,-600) 35(600,-500) 36(600,-400) 37(600,-300) 38(600,-200) 39(600,-100) 40(600,0)
Top Overlay:
  lines w10: 63.78,-1990 536.22,-1990 536.22,90 325,90 cw(c300,90) 275,90 63.78,90 63.78,-1990
3D body: height 100, standoff 15, extent 25,-1990 575,90.09
3D body: height 50, standoff 40, extent 5,-25 25,25
3D body: height 50, standoff 0, extent -5,-25 5,25
3D body: height 0, standoff -125, extent -5,-7.5 5,7.5
3D body: height 50, standoff 40, extent 5,-125 25,-75
3D body: height 50, standoff 0, extent -5,-125 5,-75
3D body: height 0, standoff -125, extent -5,-107.5 5,-92.5
3D body: height 50, standoff 40, extent 5,-225 25,-175
3D body: height 50, standoff 0, extent -5,-225 5,-175
3D body: height 0, standoff -125, extent -5,-207.5 5,-192.5
3D body: height 50, standoff 40, extent 5,-325 25,-275
3D body: height 50, standoff 0, extent -5,-325 5,-275
3D body: height 0, standoff -125, extent -5,-307.5 5,-292.5
3D body: height 50, standoff 40, extent 5,-425 25,-375
3D body: height 50, standoff 0, extent -5,-425 5,-375
3D body: height 0, standoff -125, extent -5,-407.5 5,-392.5
3D body: height 50, standoff 40, extent 5,-525 25,-475
3D body: height 50, standoff 0, extent -5,-525 5,-475
3D body: height 0, standoff -125, extent -5,-507.5 5,-492.5
3D body: height 50, standoff 40, extent 5,-625 25,-575
3D body: height 50, standoff 0, extent -5,-625 5,-575
3D body: height 0, standoff -125, extent -5,-607.5 5,-592.5
3D body: height 50, standoff 40, extent 5,-725 25,-675
3D body: height 50, standoff 0, extent -5,-725 5,-675
3D body: height 0, standoff -125, extent -5,-707.5 5,-692.5
3D body: height 50, standoff 40, extent 5,-825 25,-775
3D body: height 50, standoff 0, extent -5,-825 5,-775
3D body: height 0, standoff -125, extent -5,-807.5 5,-792.5
3D body: height 50, standoff 40, extent 5,-925 25,-875
3D body: height 50, standoff 0, extent -5,-925 5,-875
3D body: height 0, standoff -125, extent -5,-907.5 5,-892.5
3D body: height 50, standoff 40, extent 5,-1025 25,-975
3D body: height 50, standoff 0, extent -5,-1025 5,-975
3D body: height 0, standoff -125, extent -5,-1007.5 5,-992.5
3D body: height 50, standoff 40, extent 5,-1125 25,-1075
3D body: height 50, standoff 0, extent -5,-1125 5,-1075
3D body: height 0, standoff -125, extent -5,-1107.5 5,-1092.5
3D body: height 50, standoff 40, extent 5,-1225 25,-1175
3D body: height 50, standoff 0, extent -5,-1225 5,-1175
3D body: height 0, standoff -125, extent -5,-1207.5 5,-1192.5
3D body: height 50, standoff 40, extent 5,-1325 25,-1275
3D body: height 50, standoff 0, extent -5,-1325 5,-1275
3D body: height 0, standoff -125, extent -5,-1307.5 5,-1292.5
3D body: height 50, standoff 40, extent 5,-1425 25,-1375
3D body: height 50, standoff 0, extent -5,-1425 5,-1375
3D body: height 0, standoff -125, extent -5,-1407.5 5,-1392.5
3D body: height 50, standoff 40, extent 5,-1525 25,-1475
3D body: height 50, standoff 0, extent -5,-1525 5,-1475
3D body: height 0, standoff -125, extent -5,-1507.5 5,-1492.5
3D body: height 50, standoff 40, extent 5,-1625 25,-1575
3D body: height 50, standoff 0, extent -5,-1625 5,-1575
3D body: height 0, standoff -125, extent -5,-1607.5 5,-1592.5
3D body: height 50, standoff 40, extent 5,-1725 25,-1675
3D body: height 50, standoff 0, extent -5,-1725 5,-1675
3D body: height 0, standoff -125, extent -5,-1707.5 5,-1692.5
3D body: height 50, standoff 40, extent 5,-1825 25,-1775
3D body: height 50, standoff 0, extent -5,-1825 5,-1775
3D body: height 0, standoff -125, extent -5,-1807.5 5,-1792.5
3D body: height 50, standoff 40, extent 5,-1925 25,-1875
3D body: height 50, standoff 0, extent -5,-1925 5,-1875
3D body: height 0, standoff -125, extent -5,-1907.5 5,-1892.5
3D body: height 50, standoff 40, extent 575,-1925 595,-1875
3D body: height 50, standoff 0, extent 595,-1925 605,-1875
3D body: height 0, standoff -125, extent 595,-1907.5 605,-1892.5
3D body: height 50, standoff 40, extent 575,-1825 595,-1775
3D body: height 50, standoff 0, extent 595,-1825 605,-1775
3D body: height 0, standoff -125, extent 595,-1807.5 605,-1792.5
3D body: height 50, standoff 40, extent 575,-1725 595,-1675
3D body: height 50, standoff 0, extent 595,-1725 605,-1675
3D body: height 0, standoff -125, extent 595,-1707.5 605,-1692.5
3D body: height 50, standoff 40, extent 575,-1625 595,-1575
3D body: height 50, standoff 0, extent 595,-1625 605,-1575
3D body: height 0, standoff -125, extent 595,-1607.5 605,-1592.5
3D body: height 50, standoff 40, extent 575,-1525 595,-1475
3D body: height 50, standoff 0, extent 595,-1525 605,-1475
3D body: height 0, standoff -125, extent 595,-1507.5 605,-1492.5
3D body: height 50, standoff 40, extent 575,-1425 595,-1375
3D body: height 50, standoff 0, extent 595,-1425 605,-1375
3D body: height 0, standoff -125, extent 595,-1407.5 605,-1392.5
3D body: height 50, standoff 40, extent 575,-1325 595,-1275
3D body: height 50, standoff 0, extent 595,-1325 605,-1275
3D body: height 0, standoff -125, extent 595,-1307.5 605,-1292.5
3D body: height 50, standoff 40, extent 575,-1225 595,-1175
3D body: height 50, standoff 0, extent 595,-1225 605,-1175
3D body: height 0, standoff -125, extent 595,-1207.5 605,-1192.5
3D body: height 50, standoff 40, extent 575,-1125 595,-1075
3D body: height 50, standoff 0, extent 595,-1125 605,-1075
3D body: height 0, standoff -125, extent 595,-1107.5 605,-1092.5
3D body: height 50, standoff 40, extent 575,-1025 595,-975
3D body: height 50, standoff 0, extent 595,-1025 605,-975
3D body: height 0, standoff -125, extent 595,-1007.5 605,-992.5
3D body: height 50, standoff 40, extent 575,-925 595,-875
3D body: height 50, standoff 0, extent 595,-925 605,-875
3D body: height 0, standoff -125, extent 595,-907.5 605,-892.5
3D body: height 50, standoff 40, extent 575,-825 595,-775
3D body: height 50, standoff 0, extent 595,-825 605,-775
3D body: height 0, standoff -125, extent 595,-807.5 605,-792.5
3D body: height 50, standoff 40, extent 575,-725 595,-675
3D body: height 50, standoff 0, extent 595,-725 605,-675
3D body: height 0, standoff -125, extent 595,-707.5 605,-692.5
3D body: height 50, standoff 40, extent 575,-625 595,-575
3D body: height 50, standoff 0, extent 595,-625 605,-575
3D body: height 0, standoff -125, extent 595,-607.5 605,-592.5
3D body: height 50, standoff 40, extent 575,-525 595,-475
3D body: height 50, standoff 0, extent 595,-525 605,-475
3D body: height 0, standoff -125, extent 595,-507.5 605,-492.5
3D body: height 50, standoff 40, extent 575,-425 595,-375
3D body: height 50, standoff 0, extent 595,-425 605,-375
3D body: height 0, standoff -125, extent 595,-407.5 605,-392.5
3D body: height 50, standoff 40, extent 575,-325 595,-275
3D body: height 50, standoff 0, extent 595,-325 605,-275
3D body: height 0, standoff -125, extent 595,-307.5 605,-292.5
3D body: height 50, standoff 40, extent 575,-225 595,-175
3D body: height 50, standoff 0, extent 595,-225 605,-175
3D body: height 0, standoff -125, extent 595,-207.5 605,-192.5
3D body: height 50, standoff 40, extent 575,-125 595,-75
3D body: height 50, standoff 0, extent 595,-125 605,-75
3D body: height 0, standoff -125, extent 595,-107.5 605,-92.5
3D body: height 50, standoff 40, extent 575,-25 595,25
3D body: height 50, standoff 0, extent 595,-25 605,25
3D body: height 0, standoff -125, extent 595,-7.5 605,7.5

## PLCC44 [mil]
pads (44):
  rect 30x93 smd: 1(0,0) 2(-50,0) 3(-100,0) 4(-150,0) 5(-200,0) 6(-250,0) 18(-250,-640) 19(-200,-640) 20(-150,-640) 21(-100,-640) 22(-50,-640) 23(0,-640) 24(50,-640) 25(100,-640) 26(150,-640) 27(200,-640) 28(250,-640) 40(250,0) 41(200,0) 42(150,0) 43(100,0) 44(50,0)
  rect 93x30 smd: 7(-320,-70) 8(-320,-120) 9(-320,-170) 10(-320,-220) 11(-320,-270) 12(-320,-320) 13(-320,-370) 14(-320,-420) 15(-320,-470) 16(-320,-520) 17(-320,-570) 29(320,-570) 30(320,-520) 31(320,-470) 32(320,-420) 33(320,-370) 34(320,-320) 35(320,-270) 36(320,-220) 37(320,-170) 38(320,-120) 39(320,-70)
Top Overlay:
  lines w10: -253.5,-573.5 -253.5,-133 -187,-66.5 253.5,-66.5 253.5,-573.5 -253.5,-573.5
3D body: height 180, standoff 20, extent -350,-670 350,30
3D body: height 100, standoff 0, extent -360,-82 -350,-57.99
3D body: height 100, standoff 0, extent -360,-132 -350,-107.99
3D body: height 100, standoff 0, extent -360,-182 -350,-157.99
3D body: height 100, standoff 0, extent -360,-232 -350,-207.99
3D body: height 100, standoff 0, extent -360,-282 -350,-257.99
3D body: height 100, standoff 0, extent -360,-332 -350,-307.99
3D body: height 100, standoff 0, extent -360,-382 -350,-357.99
3D body: height 100, standoff 0, extent -360,-432 -350,-407.99
3D body: height 100, standoff 0, extent -360,-482 -350,-457.99
3D body: height 100, standoff 0, extent -360,-532 -350,-507.99
3D body: height 100, standoff 0, extent -360,-582 -350,-557.99
3D body: height 100, standoff 0, extent -262.01,-680 -238,-670
3D body: height 100, standoff 0, extent -212.01,-680 -188,-670
3D body: height 100, standoff 0, extent -162.01,-680 -138,-670
3D body: height 100, standoff 0, extent -112.01,-680 -88,-670
3D body: height 100, standoff 0, extent -62.01,-680 -38,-670
3D body: height 100, standoff 0, extent -12.01,-680 12,-670
3D body: height 100, standoff 0, extent 37.99,-680 62,-670
3D body: height 100, standoff 0, extent 87.99,-680 112,-670
3D body: height 100, standoff 0, extent 137.99,-680 162,-670
3D body: height 100, standoff 0, extent 187.99,-680 212,-670
3D body: height 100, standoff 0, extent 237.99,-680 262,-670
3D body: height 100, standoff 0, extent 350,-582.01 360,-558
3D body: height 100, standoff 0, extent 350,-532.01 360,-508
3D body: height 100, standoff 0, extent 350,-482.01 360,-458
3D body: height 100, standoff 0, extent 350,-432.01 360,-408
3D body: height 100, standoff 0, extent 350,-382.01 360,-358
3D body: height 100, standoff 0, extent 350,-332.01 360,-308
3D body: height 100, standoff 0, extent 350,-282.01 360,-258
3D body: height 100, standoff 0, extent 350,-232.01 360,-208
3D body: height 100, standoff 0, extent 350,-182.01 360,-158
3D body: height 100, standoff 0, extent 350,-132.01 360,-108
3D body: height 100, standoff 0, extent 350,-82.01 360,-58
3D body: height 100, standoff 0, extent 238,30 262.01,40
3D body: height 100, standoff 0, extent 188,30 212.01,40
3D body: height 100, standoff 0, extent 138,30 162.01,40
3D body: height 100, standoff 0, extent 88,30 112.01,40
3D body: height 100, standoff 0, extent 38,30 62.01,40
3D body: height 100, standoff 0, extent -12,30 12.01,40
3D body: height 100, standoff 0, extent -62,30 -37.99,40
3D body: height 100, standoff 0, extent -112,30 -87.99,40
3D body: height 100, standoff 0, extent -162,30 -137.99,40
3D body: height 100, standoff 0, extent -212,30 -187.99,40
3D body: height 100, standoff 0, extent -262,30 -237.99,40

## SOIC8 [mm]
height 1.75
pads (8):
  oval 1.45x0.6 smd: 1(-2.725,1.905) 2(-2.725,0.635) 3(-2.725,-0.635) 4(-2.725,-1.905) 5(2.725,-1.905) 6(2.725,-0.635) 7(2.725,0.635) 8(2.725,1.905)
Top Overlay:
  circle w0.6: c-0.6,1.5 r0.3
  circle w0.25: c-2.725,2.755 r0.125
  lines w0.2: -1.6,-2.5 1.6,-2.5 1.6,2.5 -1.6,2.5 -1.6,-2.5
Mechanical 13:
  circle w0.1: c-1.1,1.6 r0.5
  lines w0.1: -2,-2.5 2,-2.5 2,2.5 -2,2.5 -2,-2.5
Mechanical 15:
  lines w0.05: -3.7,-2.75 3.7,-2.75 3.7,2.75 -3.7,2.75 -3.7,-2.75
  lines w0.1: -0.5,0 0.5,0 ; 0,-0.5 0,0.5
3D body: height 0.51, standoff 0, extent 2.025,1.778 3.075,2.032
3D body: height 0.51, standoff 0, extent 2.025,0.508 3.075,0.762
3D body: height 0.51, standoff 0, extent 2.025,-0.762 3.075,-0.508
3D body: height 0.51, standoff 0, extent 2.025,-2.032 3.075,-1.778
3D body: height 0.51, standoff 0, extent -3.075,-2.032 -2.025,-1.778
3D body: height 0.51, standoff 0, extent -3.075,-0.762 -2.025,-0.508
3D body: height 0.51, standoff 0, extent -3.075,0.508 -2.025,0.762
3D body: height 0.51, standoff 0, extent -3.075,1.778 -2.025,2.032
3D body: height 1.75, standoff 0.1, extent -2,-2.5 2,2.5

## SOIC8 - SN65LVDS9637 [mm] "SN65LVDS9637"
height 1.75
pads (8):
  oval 1.45x0.6 smd: 1(-2.725,1.905) 2(-2.725,0.635) 3(-2.725,-0.635) 4(-2.725,-1.905) 5(2.725,-1.905) 6(2.725,-0.635) 7(2.725,0.635) 8(2.725,1.905)
Top Overlay:
  circle w0.6: c-0.6,1.5 r0.3
  circle w0.25: c-2.725,2.755 r0.125
  lines w0.2: -1.6,-2.5 1.6,-2.5 1.6,2.5 -1.6,2.5 -1.6,-2.5
Mechanical 13:
  circle w0.1: c-1.1,1.6 r0.5
  lines w0.1: -2,-2.5 2,-2.5 2,2.5 -2,2.5 -2,-2.5
Mechanical 15:
  lines w0.05: -3.7,-2.75 3.7,-2.75 3.7,2.75 -3.7,2.75 -3.7,-2.75
  lines w0.1: -0.5,0 0.5,0 ; 0,-0.5 0,0.5
3D body: height 0.51, standoff 0, extent 2.025,1.778 3.075,2.032
3D body: height 0.51, standoff 0, extent 2.025,0.508 3.075,0.762
3D body: height 0.51, standoff 0, extent 2.025,-0.762 3.075,-0.508
3D body: height 0.51, standoff 0, extent 2.025,-2.032 3.075,-1.778
3D body: height 0.51, standoff 0, extent -3.075,-2.032 -2.025,-1.778
3D body: height 0.51, standoff 0, extent -3.075,-0.762 -2.025,-0.508
3D body: height 0.51, standoff 0, extent -3.075,0.508 -2.025,0.762
3D body: height 0.51, standoff 0, extent -3.075,1.778 -2.025,2.032
3D body: height 1.75, standoff 0.1, extent -2,-2.5 2,2.5

## SOIC8 - SN65LVDS9638 [mm] "SN65LVDS9638"
height 1.75
pads (8):
  oval 1.45x0.6 smd: 1(-2.725,1.905) 2(-2.725,0.635) 3(-2.725,-0.635) 4(-2.725,-1.905) 5(2.725,-1.905) 6(2.725,-0.635) 7(2.725,0.635) 8(2.725,1.905)
Top Overlay:
  circle w0.25: c-2.725,2.755 r0.125
  circle w0.6: c-0.6,1.5 r0.3
  lines w0.2: -1.6,-2.5 -1.6,2.5 1.6,2.5 1.6,-2.5 -1.6,-2.5
Mechanical 13:
  circle w0.1: c-1.1,1.6 r0.5
  lines w0.1: -2,-2.5 -2,2.5 2,2.5 2,-2.5 -2,-2.5
Mechanical 15:
  lines w0.05: -3.7,-2.75 -3.7,2.75 3.7,2.75 3.7,-2.75 -3.7,-2.75
  lines w0.1: -0.5,0 0.5,0 ; 0,-0.5 0,0.5
3D body: height 1.75, standoff 0.1, extent -2,-2.5 2,2.5
3D body: height 0.51, standoff 0, extent -3.075,1.778 -2.025,2.032
3D body: height 0.51, standoff 0, extent -3.075,0.508 -2.025,0.762
3D body: height 0.51, standoff 0, extent -3.075,-0.762 -2.025,-0.508
3D body: height 0.51, standoff 0, extent -3.075,-2.032 -2.025,-1.778
3D body: height 0.51, standoff 0, extent 2.025,-2.032 3.075,-1.778
3D body: height 0.51, standoff 0, extent 2.025,-0.762 3.075,-0.508
3D body: height 0.51, standoff 0, extent 2.025,0.508 3.075,0.762
3D body: height 0.51, standoff 0, extent 2.025,1.778 3.075,2.032

## SOIC14 [mm]
pads (14):
  rect 1.55x0.6 smd: 1(0,0)
  oval 1.55x0.6 smd: 2(0,-1.27) 3(0,-2.54) 4(0,-3.81) 5(0,-5.08) 6(0,-6.35) 7(0,-7.62) 8(5.4,-7.62) 9(5.4,-6.35) 10(5.4,-5.08) 11(5.4,-3.81) 12(5.4,-2.54) 13(5.4,-1.27) 14(5.4,0)
Top Overlay:
  lines w0.2: 1.61,-8.255 1.61,0.635 2.382,0.635 ccw(c2.7,0.635) 3.017,0.635 3.79,0.635 3.79,-8.255 1.61,-8.255
3D body: height 0.51, standoff 0, extent 3.749,-0.254 5.842,0.254
3D body: height 0.51, standoff 0, extent 3.749,-1.524 5.842,-1.016
3D body: height 0.51, standoff 0, extent 3.749,-2.794 5.842,-2.286
3D body: height 0.51, standoff 0, extent 3.749,-4.064 5.842,-3.556
3D body: height 0.51, standoff 0, extent 3.749,-5.334 5.842,-4.826
3D body: height 0.51, standoff 0, extent 3.749,-6.604 5.842,-6.096
3D body: height 0.51, standoff 0, extent 3.749,-7.874 5.842,-7.366
3D body: height 0.51, standoff 0, extent -0.442,-7.874 1.651,-7.366
3D body: height 0.51, standoff 0, extent -0.442,-6.604 1.651,-6.096
3D body: height 0.51, standoff 0, extent -0.442,-5.334 1.651,-4.826
3D body: height 0.51, standoff 0, extent -0.442,-4.064 1.651,-3.556
3D body: height 0.51, standoff 0, extent -0.442,-2.794 1.651,-2.286
3D body: height 0.51, standoff 0, extent -0.442,-1.524 1.651,-1.016
3D body: height 0.51, standoff 0, extent -0.442,-0.254 1.651,0.254
3D body: height 1.75, standoff 0, extent 1.609,-8.256 3.791,0.636